# EAGLE library part DA14581-40 (library chips_old)
A better version of the DA14580 - faster boot
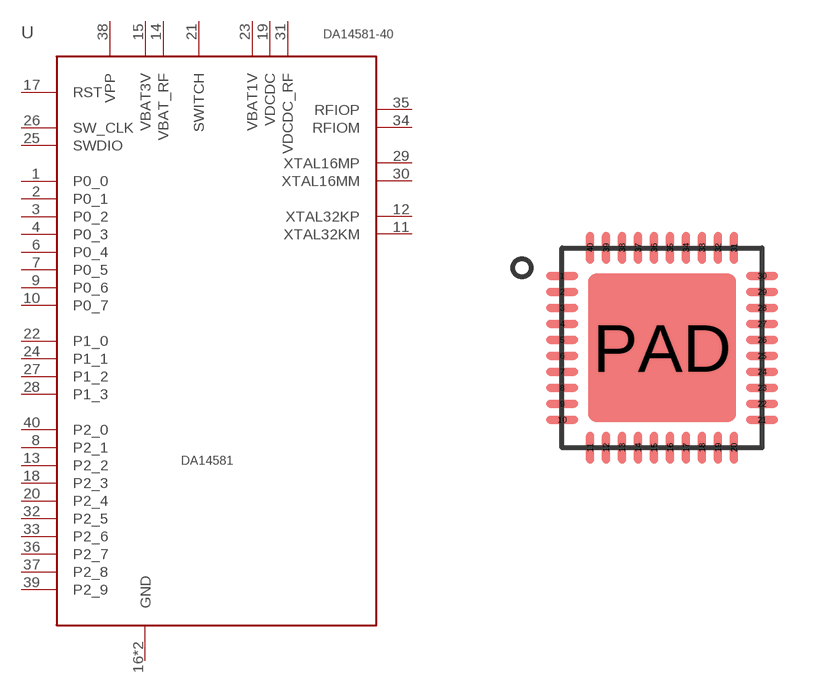
[diagram p39: symbol with the pads of QFN-40-5MM; footprint QFN-40-5MM]

Designator prefix -

## DA14581-40 (DIGIKEY: 1564-1016-1-ND)  [QFN-40-5MM]
1  P0_0
2  P0_1
3  P0_2
4  P0_3
6  P0_4
7  P0_5
8  P2_1
9  P0_6
10  P0_7
11  XTAL32KM
12  XTAL32KP
13  P2_2
14  VBAT_RF
15  VBAT3V
16  GND
17  RST
18  P2_3
19  VDCDC
20  P2_4
21  SWITCH
22  P1_0
23  VBAT1V
24  P1_1
25  SWDIO
26  SW_CLK
27  P1_2
28  P1_3
29  XTAL16MP
30  XTAL16MM
31  VDCDC_RF
32  P2_5
33  P2_6
34  RFIOM
35  RFIOP
36  P2_7
37  P2_8
38  VPP
39  P2_9
40  P2_0
PAD  GND

## Footprint QFN-40-5MM (pad centres in mm)
smd 0.8 x 0.2: 1 -2.5,1.8; 2 -2.5,1.4; 3 -2.5,1; 4 -2.5,0.6; 5 -2.5,0.2; 6 -2.5,-0.2; 7 -2.5,-0.6; 8 -2.5,-1; 9 -2.5,-1.4; 10 -2.5,-1.8; 21 2.5,-1.8; 22 2.5,-1.4; 23 2.5,-1; 24 2.5,-0.6; 25 2.5,-0.2; 26 2.5,0.2; 27 2.5,0.6; 28 2.5,1; 29 2.5,1.4; 30 2.5,1.8
smd 0.2 x 0.8: 11 -1.8,-2.5; 12 -1.4,-2.5; 13 -1,-2.5; 14 -0.6,-2.5; 15 -0.2,-2.5; 16 0.2,-2.5; 17 0.6,-2.5; 18 1,-2.5; 19 1.4,-2.5; 20 1.8,-2.5; 31 1.8,2.5; 32 1.4,2.5; 33 1,2.5; 34 0.6,2.5; 35 0.2,2.5; 36 -0.2,2.5; 37 -0.6,2.5; 38 -1,2.5; 39 -1.4,2.5; 40 -1.8,2.5
smd 3.7 x 3.7: PAD 0,0